# EAGLE library part MMPQ2222 (library AniBike_Common_Library)
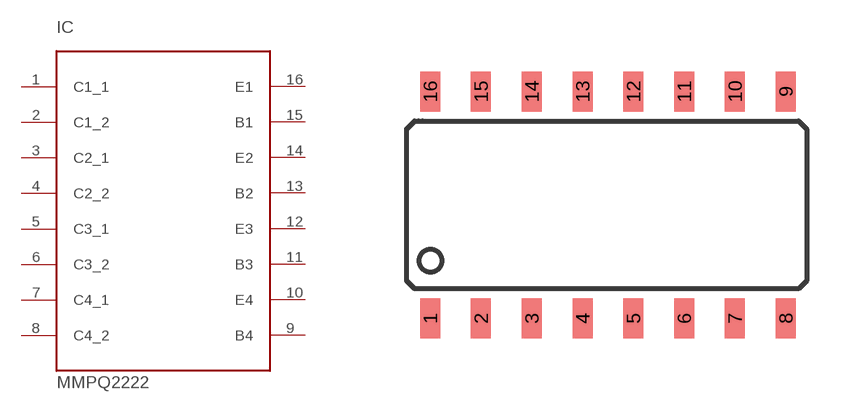
[diagram p5: symbol with the pads of SOIC16; footprint SOIC16]

Designator prefix IC

## MMPQ2222  [SOIC16]
1  C1_1
2  C1_2
3  C2_1
4  C2_2
5  C3_1
6  C3_2
7  C4_1
8  C4_2
9  B4
10  E4
11  B3
12  E3
13  B2
14  E2
15  B1
16  E1

## Footprint SOIC16 (pad centres in mm)
smd 0.5 x 1: 1 -4.41,-2.84; 2 -3.14,-2.84; 3 -1.87,-2.84; 4 -0.6,-2.84; 5 0.67,-2.84; 6 1.94,-2.84; 7 3.21,-2.84; 8 4.48,-2.84; 9 4.48,2.84; 10 3.21,2.84; 11 1.94,2.84; 12 0.67,2.84; 13 -0.6,2.84; 14 -1.87,2.84; 15 -3.14,2.84; 16 -4.41,2.84